# EAGLE library part QUADBUF (library ZMPLC)
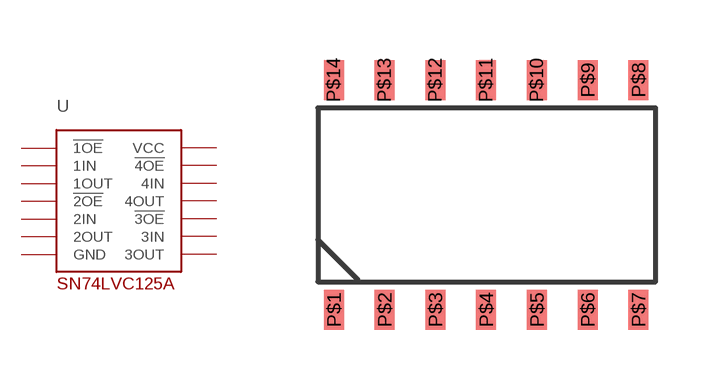
[diagram p2: symbol with the pads of SOIC14_D; footprint SOIC14_D]

Designator prefix -

## QUADBUF  [SOIC14_D]
P$1  !1OE
P$2  1IN
P$3  1OUT
P$4  !2OE
P$5  2IN
P$6  2OUT
P$7  GND  pwr
P$8  3OUT
P$9  3IN
P$10  !3OE
P$11  4OUT
P$12  4IN
P$13  !4OE
P$14  VCC  pwr

## Footprint SOIC14_D (pad centres in mm)
smd 0.5 x 1: P$1 0,-5.75; P$2 1.27,-5.75; P$3 2.54,-5.75; P$4 3.81,-5.75; P$5 5.08,-5.75; P$6 6.35,-5.75; P$7 7.62,-5.75; P$8 7.62,0; P$9 6.35,0; P$10 5.08,0; P$11 3.81,0; P$12 2.54,0; P$13 1.27,0; P$14 0,0